# EAGLE library part ESP-01 (library narodmon)
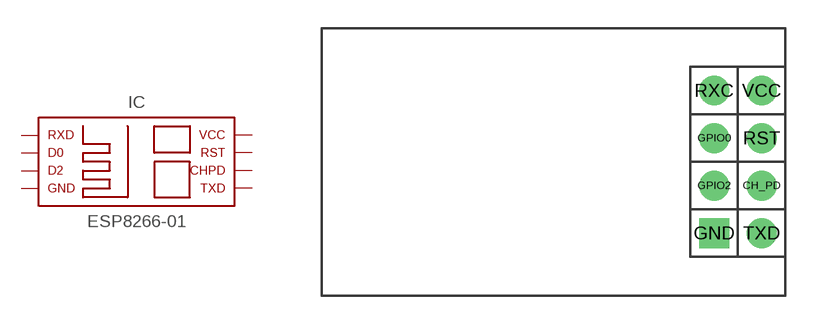
[diagram p0: symbol with the pads of ESP-01; footprint ESP-01]

Designator prefix IC

## ESP-01  [ESP-01]
CH_PD  CH_PD
GND  GND
GPIO0  GPIO0
GPIO2  GPIO2
RST  RST
RXC  RXD
TXD  TXD
VCC  VCC

## Footprint ESP-01 (pad centres in mm)
drill 0.6 pad 1.6: CH_PD -1.27,-1.27; GPIO0 -3.81,1.27; GPIO2 -3.81,-1.27; RST -1.27,1.27; RXC -3.81,3.81; TXD -1.27,-3.81; VCC -1.27,3.81
drill 0.6 pad 1.6 square: GND -3.81,-3.81